# Altium schematic symbol library CPU_NXP_6800.SchLib: 12 symbols
Pins are listed as number, name and electrical type; pins without a type are passive.

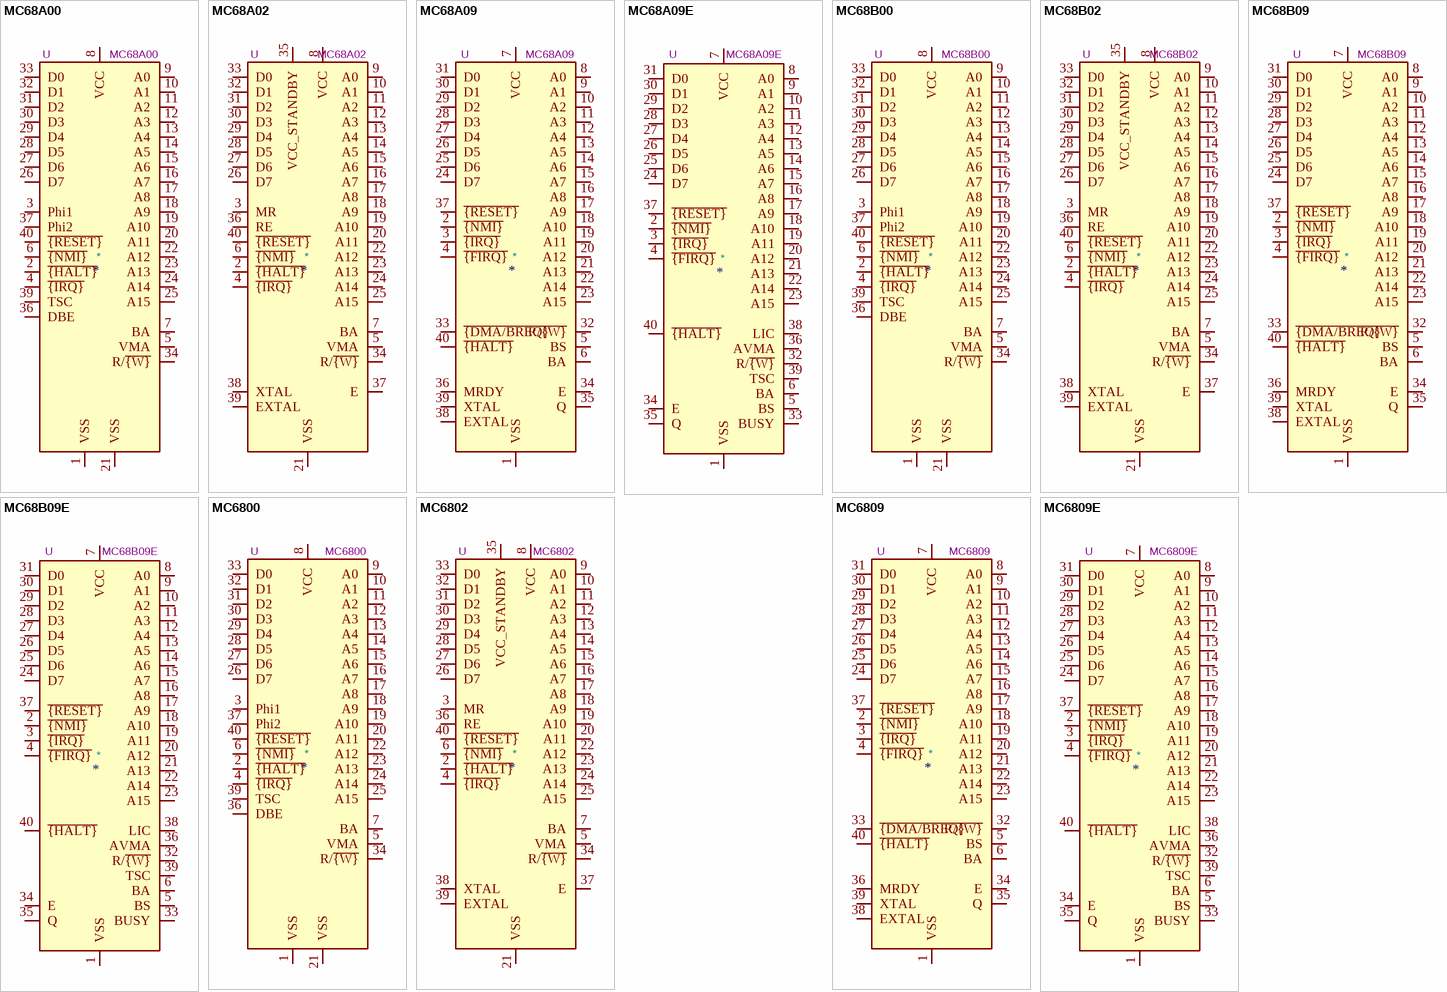
[diagram p0: symbols MC68A00 to MC6809E]

## MC68A00
designator *  value MC68A00  Reference: U
ki_keywords: MCU; ki_description: 8-Bit Microprocessing unit 1.5MHz, DIP-40; ki_fp_filters: DIP*W15.24mm*; Footprint: Package_DIP:DIP-40_W15.24mm; Datasheet: http://pdf.datasheetcatalog.com/datasheet/motorola/MC68A00L.pdf
pins: 1 VSS, 2 ~{{HALT}}, 3 Phi1, 4 ~{{IRQ}}, 5 VMA, 6 ~{{NMI}}, 7 BA, 8 VCC, 9 A0, 10 A1, 11 A2, 12 A3, 13 A4, 14 A5, 15 A6, 16 A7, 17 A8, 18 A9, 19 A10, 20 A11, 21 VSS, 22 A12, 23 A13, 24 A14, 25 A15, 26 D7, 27 D6, 28 D5, 29 D4, 30 D3, 31 D2, 32 D1, 33 D0, 34 R/~{{W}}, 35 N.C. hidden, 36 DBE, 37 Phi2, 38 N.C. hidden, 39 TSC, 40 ~{{RESET}}

## MC68A02
designator *  value MC68A02  Reference: U
ki_keywords: MCU; ki_description: 8-Bit Microprocessing unit 1.5MHz, DIP-40; ki_fp_filters: DIP*W15.24mm*; Footprint: Package_DIP:DIP-40_W15.24mm; Datasheet: https://www.jameco.com/Jameco/Products/ProdDS/43502.pdf
pins: 1 VSS hidden, 2 ~{{HALT}}, 3 MR, 4 ~{{IRQ}}, 5 VMA, 6 ~{{NMI}}, 7 BA, 8 VCC, 9 A0, 10 A1, 11 A2, 12 A3, 13 A4, 14 A5, 15 A6, 16 A7, 17 A8, 18 A9, 19 A10, 20 A11, 21 VSS, 22 A12, 23 A13, 24 A14, 25 A15, 26 D7, 27 D6, 28 D5, 29 D4, 30 D3, 31 D2, 32 D1, 33 D0, 34 R/~{{W}}, 35 VCC_STANDBY, 36 RE, 37 E, 38 XTAL, 39 EXTAL, 40 ~{{RESET}}

## MC68A09
designator *  value MC68A09  Reference: U
ki_keywords: MCU; ki_description: 8-Bit Microprocessing unit 1.5MHz, DIP-40; ki_fp_filters: DIP*W15.24mm*; Footprint: Package_DIP:DIP-40_W15.24mm; Datasheet: http://pdf.datasheetcatalog.com/datasheet/motorola/MC68B09S.pdf
pins: 1 VSS, 2 ~{{NMI}}, 3 ~{{IRQ}}, 4 ~{{FIRQ}}, 5 BS, 6 BA, 7 VCC, 8 A0, 9 A1, 10 A2, 11 A3, 12 A4, 13 A5, 14 A6, 15 A7, 16 A8, 17 A9, 18 A10, 19 A11, 20 A12, 21 A13, 22 A14, 23 A15, 24 D7, 25 D6, 26 D5, 27 D4, 28 D3, 29 D2, 30 D1, 31 D0, 32 R/~{{W}}, 33 ~{{DMA/BREQ}}, 34 E, 35 Q, 36 MRDY, 37 ~{{RESET}}, 38 EXTAL, 39 XTAL, 40 ~{{HALT}}

## MC68A09E
designator *  value MC68A09E  Reference: U
ki_keywords: MCU; ki_description: 8-Bit Microprocessing unit 1.5MHz, DIP-40; ki_fp_filters: DIP*W15.24mm*; Footprint: Package_DIP:DIP-40_W15.24mm; Datasheet: http://pdf.datasheetcatalog.com/datasheet/motorola/MC68B09S.pdf
pins: 1 VSS, 2 ~{{NMI}}, 3 ~{{IRQ}}, 4 ~{{FIRQ}}, 5 BS, 6 BA, 7 VCC, 8 A0, 9 A1, 10 A2, 11 A3, 12 A4, 13 A5, 14 A6, 15 A7, 16 A8, 17 A9, 18 A10, 19 A11, 20 A12, 21 A13, 22 A14, 23 A15, 24 D7, 25 D6, 26 D5, 27 D4, 28 D3, 29 D2, 30 D1, 31 D0, 32 R/~{{W}}, 33 BUSY, 34 E, 35 Q, 36 AVMA, 37 ~{{RESET}}, 38 LIC, 39 TSC, 40 ~{{HALT}}

## MC68B00
designator *  value MC68B00  Reference: U
ki_keywords: MCU; ki_description: 8-Bit Microprocessing unit 2.0MHz, DIP-40; ki_fp_filters: DIP*W15.24mm*; Footprint: Package_DIP:DIP-40_W15.24mm; Datasheet: http://pdf.datasheetcatalog.com/datasheet/motorola/MC68A00L.pdf
pins: 1 VSS, 2 ~{{HALT}}, 3 Phi1, 4 ~{{IRQ}}, 5 VMA, 6 ~{{NMI}}, 7 BA, 8 VCC, 9 A0, 10 A1, 11 A2, 12 A3, 13 A4, 14 A5, 15 A6, 16 A7, 17 A8, 18 A9, 19 A10, 20 A11, 21 VSS, 22 A12, 23 A13, 24 A14, 25 A15, 26 D7, 27 D6, 28 D5, 29 D4, 30 D3, 31 D2, 32 D1, 33 D0, 34 R/~{{W}}, 35 N.C. hidden, 36 DBE, 37 Phi2, 38 N.C. hidden, 39 TSC, 40 ~{{RESET}}

## MC68B02
designator *  value MC68B02  Reference: U
ki_keywords: MCU; ki_description: 8-Bit Microprocessing unit 2.0MHz, DIP-40; ki_fp_filters: DIP*W15.24mm*; Footprint: Package_DIP:DIP-40_W15.24mm; Datasheet: https://www.jameco.com/Jameco/Products/ProdDS/43502.pdf
pins: 1 VSS hidden, 2 ~{{HALT}}, 3 MR, 4 ~{{IRQ}}, 5 VMA, 6 ~{{NMI}}, 7 BA, 8 VCC, 9 A0, 10 A1, 11 A2, 12 A3, 13 A4, 14 A5, 15 A6, 16 A7, 17 A8, 18 A9, 19 A10, 20 A11, 21 VSS, 22 A12, 23 A13, 24 A14, 25 A15, 26 D7, 27 D6, 28 D5, 29 D4, 30 D3, 31 D2, 32 D1, 33 D0, 34 R/~{{W}}, 35 VCC_STANDBY, 36 RE, 37 E, 38 XTAL, 39 EXTAL, 40 ~{{RESET}}

## MC68B09
designator *  value MC68B09  Reference: U
ki_keywords: MCU; ki_description: 8-Bit Microprocessing unit 2.0MHz, DIP-40; ki_fp_filters: DIP*W15.24mm*; Footprint: Package_DIP:DIP-40_W15.24mm; Datasheet: http://pdf.datasheetcatalog.com/datasheet/motorola/MC68B09S.pdf
pins: 1 VSS, 2 ~{{NMI}}, 3 ~{{IRQ}}, 4 ~{{FIRQ}}, 5 BS, 6 BA, 7 VCC, 8 A0, 9 A1, 10 A2, 11 A3, 12 A4, 13 A5, 14 A6, 15 A7, 16 A8, 17 A9, 18 A10, 19 A11, 20 A12, 21 A13, 22 A14, 23 A15, 24 D7, 25 D6, 26 D5, 27 D4, 28 D3, 29 D2, 30 D1, 31 D0, 32 R/~{{W}}, 33 ~{{DMA/BREQ}}, 34 E, 35 Q, 36 MRDY, 37 ~{{RESET}}, 38 EXTAL, 39 XTAL, 40 ~{{HALT}}

## MC68B09E
designator *  value MC68B09E  Reference: U
ki_keywords: MCU; ki_description: 8-Bit Microprocessing unit 2.0MHz, DIP-40; ki_fp_filters: DIP*W15.24mm*; Footprint: Package_DIP:DIP-40_W15.24mm; Datasheet: http://pdf.datasheetcatalog.com/datasheet/motorola/MC68B09S.pdf
pins: 1 VSS, 2 ~{{NMI}}, 3 ~{{IRQ}}, 4 ~{{FIRQ}}, 5 BS, 6 BA, 7 VCC, 8 A0, 9 A1, 10 A2, 11 A3, 12 A4, 13 A5, 14 A6, 15 A7, 16 A8, 17 A9, 18 A10, 19 A11, 20 A12, 21 A13, 22 A14, 23 A15, 24 D7, 25 D6, 26 D5, 27 D4, 28 D3, 29 D2, 30 D1, 31 D0, 32 R/~{{W}}, 33 BUSY, 34 E, 35 Q, 36 AVMA, 37 ~{{RESET}}, 38 LIC, 39 TSC, 40 ~{{HALT}}

## MC6800
designator *  value MC6800  Reference: U
ki_keywords: MCU; ki_description: 8-Bit Microprocessing unit 1.0MHz, DIP-40; ki_fp_filters: DIP*W15.24mm*; Footprint: Package_DIP:DIP-40_W15.24mm; Datasheet: http://pdf.datasheetcatalog.com/datasheet/motorola/MC68A00L.pdf
pins: 1 VSS, 2 ~{{HALT}}, 3 Phi1, 4 ~{{IRQ}}, 5 VMA, 6 ~{{NMI}}, 7 BA, 8 VCC, 9 A0, 10 A1, 11 A2, 12 A3, 13 A4, 14 A5, 15 A6, 16 A7, 17 A8, 18 A9, 19 A10, 20 A11, 21 VSS, 22 A12, 23 A13, 24 A14, 25 A15, 26 D7, 27 D6, 28 D5, 29 D4, 30 D3, 31 D2, 32 D1, 33 D0, 34 R/~{{W}}, 35 N.C. hidden, 36 DBE, 37 Phi2, 38 N.C. hidden, 39 TSC, 40 ~{{RESET}}

## MC6802
designator *  value MC6802  Reference: U
ki_keywords: MCU; ki_description: 8-Bit Microprocessing unit 1.0MHz, DIP-40; ki_fp_filters: DIP*W15.24mm*; Footprint: Package_DIP:DIP-40_W15.24mm; Datasheet: https://www.jameco.com/Jameco/Products/ProdDS/43502.pdf
pins: 1 VSS hidden, 2 ~{{HALT}}, 3 MR, 4 ~{{IRQ}}, 5 VMA, 6 ~{{NMI}}, 7 BA, 8 VCC, 9 A0, 10 A1, 11 A2, 12 A3, 13 A4, 14 A5, 15 A6, 16 A7, 17 A8, 18 A9, 19 A10, 20 A11, 21 VSS, 22 A12, 23 A13, 24 A14, 25 A15, 26 D7, 27 D6, 28 D5, 29 D4, 30 D3, 31 D2, 32 D1, 33 D0, 34 R/~{{W}}, 35 VCC_STANDBY, 36 RE, 37 E, 38 XTAL, 39 EXTAL, 40 ~{{RESET}}

## MC6809
designator *  value MC6809  Reference: U
ki_keywords: MCU; ki_description: 8-Bit Microprocessing unit 1.0MHz, DIP-40; ki_fp_filters: DIP*W15.24mm*; Footprint: Package_DIP:DIP-40_W15.24mm; Datasheet: http://pdf.datasheetcatalog.com/datasheet/motorola/MC68B09S.pdf
pins: 1 VSS, 2 ~{{NMI}}, 3 ~{{IRQ}}, 4 ~{{FIRQ}}, 5 BS, 6 BA, 7 VCC, 8 A0, 9 A1, 10 A2, 11 A3, 12 A4, 13 A5, 14 A6, 15 A7, 16 A8, 17 A9, 18 A10, 19 A11, 20 A12, 21 A13, 22 A14, 23 A15, 24 D7, 25 D6, 26 D5, 27 D4, 28 D3, 29 D2, 30 D1, 31 D0, 32 R/~{{W}}, 33 ~{{DMA/BREQ}}, 34 E, 35 Q, 36 MRDY, 37 ~{{RESET}}, 38 EXTAL, 39 XTAL, 40 ~{{HALT}}

## MC6809E
designator *  value MC6809E  Reference: U
ki_keywords: MCU; ki_description: 8-Bit Microprocessing unit 1.0MHz, DIP-40; ki_fp_filters: DIP*W15.24mm*; Footprint: Package_DIP:DIP-40_W15.24mm; Datasheet: http://pdf.datasheetcatalog.com/datasheet/motorola/MC68B09S.pdf
pins: 1 VSS, 2 ~{{NMI}}, 3 ~{{IRQ}}, 4 ~{{FIRQ}}, 5 BS, 6 BA, 7 VCC, 8 A0, 9 A1, 10 A2, 11 A3, 12 A4, 13 A5, 14 A6, 15 A7, 16 A8, 17 A9, 18 A10, 19 A11, 20 A12, 21 A13, 22 A14, 23 A15, 24 D7, 25 D6, 26 D5, 27 D4, 28 D3, 29 D2, 30 D1, 31 D0, 32 R/~{{W}}, 33 BUSY, 34 E, 35 Q, 36 AVMA, 37 ~{{RESET}}, 38 LIC, 39 TSC, 40 ~{{HALT}}